# Altium footprint library XH-2AW.PcbLib: 1 footprints
Each footprint in its own frame and in the unit in brackets; x right, y up, seen from the top. Pads: shape width x height; smd on the part's side, far side on the other; paste and mask are expansions set on the pad; w line width, h text height; cw(c..) or ccw(c..) is an arc to the next point about the centre after c.
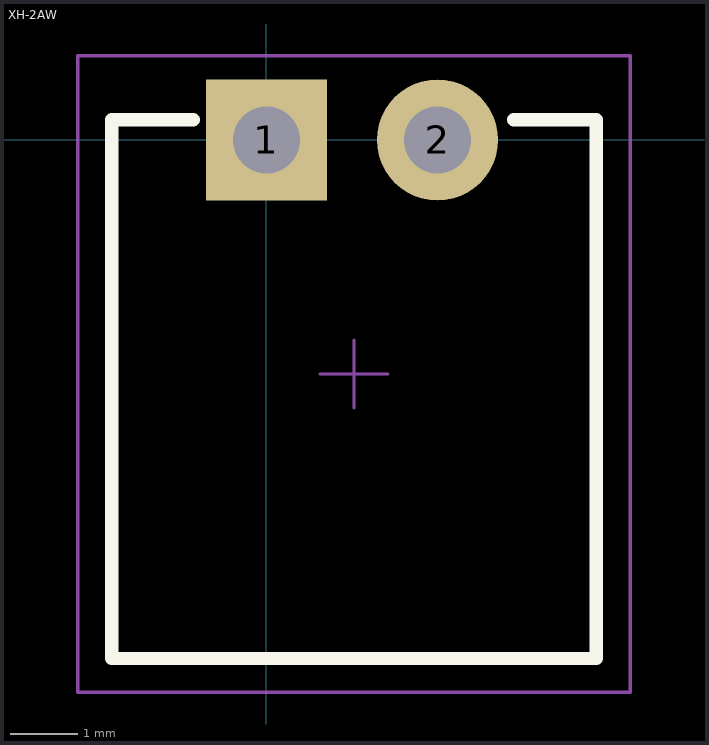
[diagram p0: the footprint, top view; thin cyan lines are the x and y axes]

## XH-2AW [mm]
pads (2):
  rect 1.8x1.8 hole 1: 1(0,0)
  round 1.8 hole 1: 2(2.54,0)
Top Overlay:
  lines w0.2: -1.089,0.3 -2.3,0.3 -2.3,-7.7 4.9,-7.7 4.9,0.3 3.675,0.3
Top Courtyard:
  lines w0.05: 0.8,-3.475 1.8,-3.475 ; 1.3,-3.975 1.3,-2.975 ; -2.8,-8.2 -2.8,1.25 5.4,1.25 5.4,-8.2 -2.8,-8.2
3D body "JST - XH - Thru (R) - 2Pin - 2.54mm.stp": height 5.84, standoff -3.38, extent -2.314,-7.718 4.9,0.318